# Altium schematic symbol library Mini Multi Function Device.SchLib: 27 symbols (part 2 of 2)
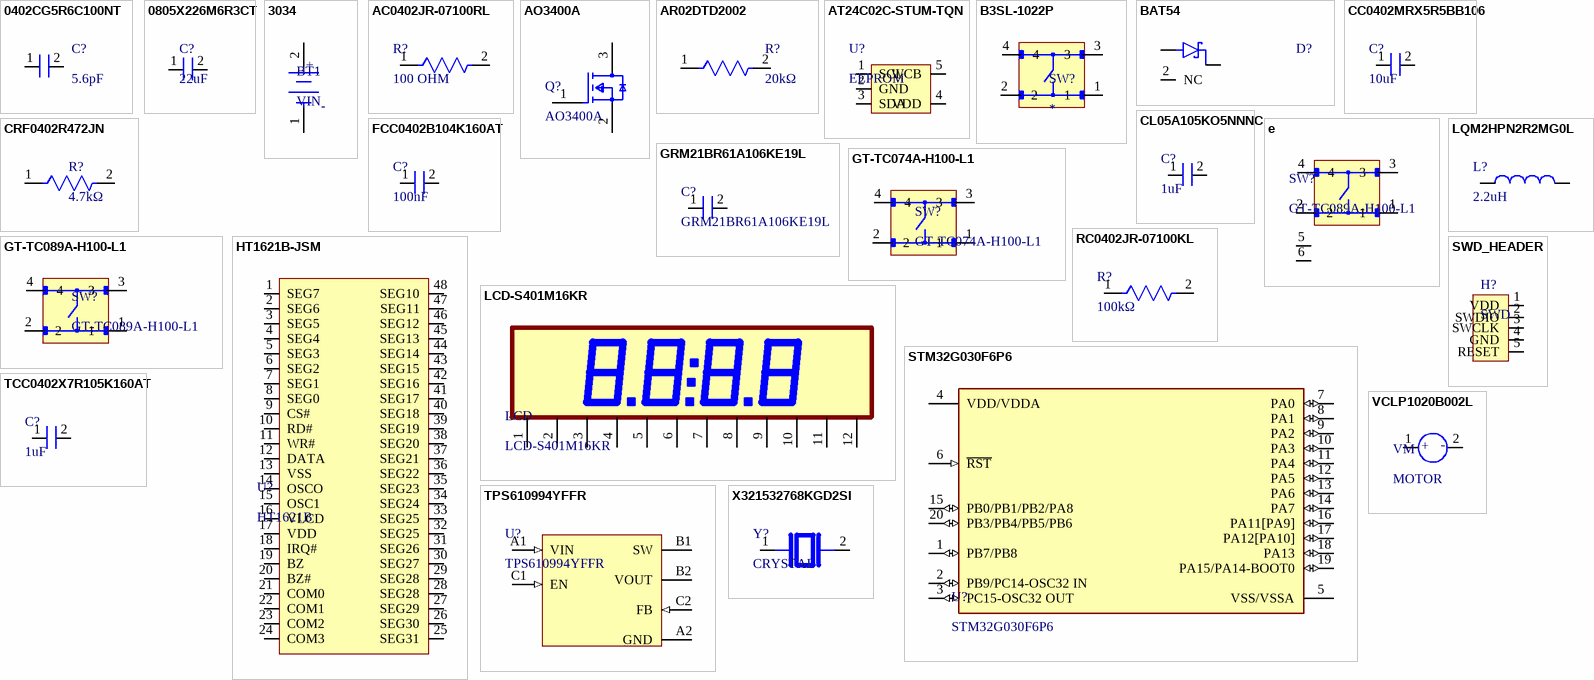
[diagram p1: symbols 0402CG5R6C100NT to X321532768KGD2SI]

## STM32G030F6P6
designator U?
Microcontroller 32-bit ARM Cortex-M0+ RISC 32KB Flash 3.3V 20-Pin TSSOP Tray; Manufacturer: STMicroelectronics; ADC Channels (Resolution): 16-Ch 12-Bit; Data Bus Width: 32b; EEPROM Memory Size: 0B; Frequency: 64MHz; Interface: I2S; Max Junction Temperature (Tj): 105°C; Max Supply Current: 8.3mA; Max Supply Voltage: 3.6V; Min Supply Voltage: 2V; Nominal Supply Voltage (DC): 3V; Number of A/D Converters: 1; Number of ADC Channels: 16; Number of I2C Channels: 2; Number of PWM Channels: 11; Number of Timers/Counters: 6; Peripherals: POR, RTC; RAM Size: 8kB; Supplier: DigiKey; Supplier Part Number: 497-STM32G030F6P6-ND; Manufacturer Part Number: STM32G030F6P6; RoHS: Compliant; Category: Microcontrollers; Stock: 75079; Pricing: 1=2.18, 10=1.604, 74=1.32919, 148=1.26466, 518=1.10917 (USD); Ambient Temperature Range High: 85°C; Case/Package: TSSOP; China RoHS: Compliant; Core Architecture: ARM Cortex-M0+; Country of Origin: Mainland China, Philippines, Taiwan; Export Control Classification Number (ECCN) Code: 3A991.A.2; Flash Memory Size: 32kB; Height: 1.2mm; Height - Seated (Max): 1.2mm; Harmonized Tariff Schedule (HTS) Code: 8542.31.00.25; Introduction Date: 2019-08-13; Length: 6.5mm; Lifecycle Status: Production; Clock Frequency: 64MHz; Max Operating Temperature: 85°C; Memory Size: 32kB; Memory Format: FLASH; Min Operating Temperature: -40°C; Number of Channels: 16; Number of I/Os: 2; Number of SPI Channels: 2; Number of Terminals: 20; Number of UART Channels: 2; Number of USART Channels: 2; REACH SVHC: Unaffected; Schedule B: 8542310000, 8542310000|8542310000|8542310000|8542310000|8542310000; Terminal Pitch: 650µm; Width: 4.4mm; ComponentLink1URL: https://datasheet.octopart.com:443/STM32G030F6P6-STMicroelectronics-datasheet-137692524.pdf?src-supplier=TME; ComponentLink1Description: https://datasheet.octopart.com:443/STM32G030F6P6-STMicroelectronics-datasheet-137692524.pdf?src-supplier=TME; LCSC PART: C724040
footprint FP-TSSOP20-YA-MFG
pins: 1 PB7/PB8 (io), 2 PB9/PC14-OSC32 IN (io), 3 PC15-OSC32 OUT (io), 4 VDD/VDDA (power), 5 VSS/VSSA (power), 6 ~{RST} (in), 7 PA0 (io), 8 PA1 (io), 9 PA2 (io), 10 PA3 (io), 11 PA4 (io), 12 PA5 (io), 13 PA6 (io), 14 PA7 (io), 15 PB0/PB1/PB2/PA8 (io), 16 PA11[PA9] (io), 17 PA12[PA10] (io), 18 PA13 (io), 19 PA15/PA14-BOOT0 (io), 20 PB3/PB4/PB5/PB6 (io)

## SWD_HEADER
designator H?, comment SWD
footprint SWD_HEADER
pins: 1 VDD, 2 SWDIO, 3 SWCLK, 4 GND, 5 RESET

## TCC0402X7R105K160AT
designator C?, comment 1uF
TCC0402X7R105K160AT 0402 X7R 1UF ¡À10% 16V Ceramic Capacitors; Manufacturer: CCTC; LCSC PART: C49210445; Manufacturer Part Number: TCC0402X7R105K160AT
footprint CAPACITOR
pins: 1 2, 2 3

## TPS610994YFFR
designator U?
0.7Vin Synchronous Boost Converter with 800 nA Ultra-Low Quiescent Current 6-DSBGA -40 to 85; Manufacturer: Texas Instruments; Manufacturer Lifecycle Status: ACTIVE; Max Duty Cycle: 90%; Max Junction Temperature (Tj): 125°C; Max Supply Voltage: 5.5V; Min Supply Voltage: 700mV; Number of Outputs: 1; Output Voltage: 3.3V; Supplier: Mouser; Supplier Part Number: 595-TPS610994YFFR; Manufacturer Part Number: TPS610994YFFR; RoHS: Compliant; Category: Voltage Regulators - Switching; Stock: 918; Pricing: 1=1.7, 10=1.24, 50=1.13, 100=0.999, 1000=0.88, 10000=0.792 (USD); Height: 625µm; Length: 0m; Lifecycle Status: Production; Max Operating Temperature: 85°C; Min Operating Temperature: -40°C; Pins: 6; Schedule B: 8542390000, 8542390000|8542390000|8542390000|8542390000|8542390000; Thickness: 535µm; Topology: Boost; Width: 0m; ComponentLink1URL: https://sigma.octopart.com:443/102708341/technical_drawing/Texas-Instruments-TPS610994YFFR.pdf?src-supplier=Texas+Instruments; ComponentLink1Description: https://sigma.octopart.com:443/102708341/technical_drawing/Texas-Instruments-TPS610994YFFR.pdf?src-supplier=Texas+Instruments; ComponentLink2URL: https://octopart.com:443/opatz8j6/c1?t=WOiHvKaQ067hiQQk06bPYYslmHf-zaa3unEVrq9qYLczSXfiPFC-h8dOU4ZzEJWJ-3zVqLEiJ1NTVRQ16sGiV55YDbzD3HBkKnSXs-RsLCKyAcUbpQj7xvoyysaqZ7Oc1gKVNqvQ8SoMUzEX8GOGxTP5Y993wEQnOiTvq_853BI-Pbs60xAFN0vAmsIcv9lA6aczl1DkB1H55CnBoDy0Obp3Qs-5Gen7NY_QyS_GtTt-B59J7t-Jb0lEJ-YhjT9CdvlpxQ4dLvniqV2lj0u-vF2n_rYHtxfKm3rNU71zEqcYZAIdQlGa-m51ft3SeFY18n9yUhh33H1WXzCYD56EToUdLA34T5fgFPxH_XlcftoHbzZRZ9CiDyimrKS1GAX1Yc7w0diQ&src-supplier=Texas+Instruments; ComponentLink2Description: https://octopart.com:443/opatz8j6/c1?t=WOiHvKaQ067hiQQk06bPYYslmHf-zaa3unEVrq9qYLczSXfiPFC-h8dOU4ZzEJWJ-3zVqLEiJ1NTVRQ16sGiV55YDbzD3HBkKnSXs-RsLCKyAcUbpQj7xvoyysaqZ7Oc1gKVNqvQ8SoMUzEX8GOGxTP5Y993wEQnOiTvq_853BI-Pbs60xAFN0vAmsIcv9lA6aczl1DkB1H55CnBoDy0Obp3Qs-5Gen7NY_QyS_GtTt-B59J7t-Jb0lEJ-YhjT9CdvlpxQ4dLvniqV2lj0u-vF2n_rYHtxfKm3rNU71zEqcYZAIdQlGa-m51ft3SeFY18n9yUhh33H1WXzCYD56EToUdLA34T5fgFPxH_XlcftoHbzZRZ9CiDyimrKS1GAX1Yc7w0diQ&src-supplier=Texas+Instruments; ComponentLink3URL: https://sigma.octopart.com:443/49261954/technical_drawing/Texas-Instruments-TPS610994YFFR.pdf?src-supplier=Texas+Instruments; ComponentLink3Description: https://sigma.octopart.com:443/49261954/technical_drawing/Texas-Instruments-TPS610994YFFR.pdf?src-supplier=Texas+Instruments; ComponentLink4URL: https://datasheet.octopart.com:443/TPS610994YFFR-Texas-Instruments-datasheet-159752691.pdf?src-supplier=LCSC; ComponentLink4Description: https://datasheet.octopart.com:443/TPS610994YFFR-Texas-Instruments-datasheet-159752691.pdf?src-supplier=LCSC; ComponentLink5URL: https://datasheet.octopart.com:443/TPS610994YFFR-Texas-Instruments-datasheet-94062300.pdf?src-supplier=HQonline; ComponentLink5Description: https://datasheet.octopart.com:443/TPS610994YFFR-Texas-Instruments-datasheet-94062300.pdf?src-supplier=HQonline; ComponentLink6URL: https://datasheet.octopart.com:443/TPS610994YFFR-Texas-Instruments-datasheet-140571912.pdf?src-supplier=Arrow.cn; ComponentLink6Description: https://datasheet.octopart.com:443/TPS610994YFFR-Texas-Instruments-datasheet-140571912.pdf?src-supplier=Arrow.cn; ComponentLink7URL: http://sigma.octopart.com:80/reach_statement/Texas-Instruments-company-64.pdf?src-supplier=Compliance+Statements; ComponentLink7Description: http://sigma.octopart.com:80/reach_statement/Texas-Instruments-company-64.pdf?src-supplier=Compliance+Statements; ComponentLink8URL: http://sigma.octopart.com:80/conflict_mineral_statement/Texas-Instruments-company-63.pdf?src-supplier=Compliance+Statements; ComponentLink8Description: http://sigma.octopart.com:80/conflict_mineral_statement/Texas-Instruments-company-63.pdf?src-supplier=Compliance+Statements; LCSC PART: C2650335
footprint BGA6N40P3X2_122X88X62N
pins: A1 VIN (in), A2 GND (power), B1 SW, B2 VOUT, C1 EN (in), C2 FB (in)

## VCLP1020B002L
designator VM, comment MOTOR
Vibration Coin 3V Low Curr 0.75G; Manufacturer: Vybronics; Manufacturer Part Number: VCLP1020B002L; Supplier: DigiKey; Supplier Part Number: 1670-VCLP1020B002L-ND; Category: AC, DC and Servo Motors; Stock: 4086; Pricing: 1=3.15, 5=2.892, 10=2.789, 25=2.658, 50=2.5628, 100=2.4713, 250=2.35528, 500=2.27116, 1000=2.19002 (USD); LCSC PART: C17192037
footprint VCLP1020B002L
pins: 1, 2
text: -; +

## X321532768KGD2SI
designator Y?, comment CRYSTAL
-40℃~+85℃ 12.5pF 32.768kHz 70kΩ SMD crystal oscillator ±20ppm ±30ppm SMD3215-2P Crystals ROHS; Manufacturer: YXC Crystal Oscillators; Manufacturer Part Number: X321532768KGD2SI; LCSC PART: C620155
footprint OSC-SMD_L3.2-W1.5
pins: 1, 2